# EAGLE library part POCKETBEAGLE (library Project)
PocketBeagle Board
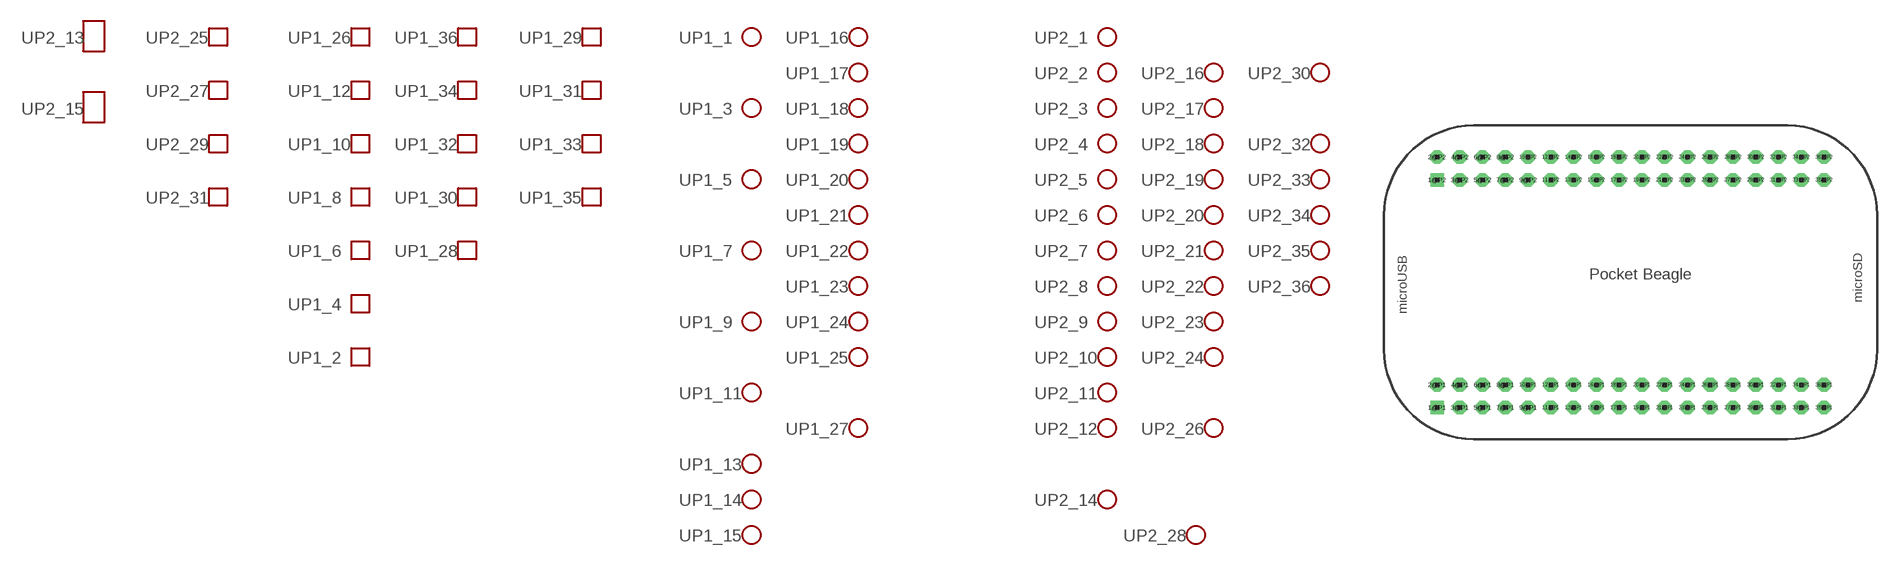
[diagram p0: symbol with the pads of POCKETBEAGLE; footprint POCKETBEAGLE]

Designator prefix -; gates P1_7=POCKETBEAGLE_MISC P1_9=POCKETBEAGLE_MISC P1_16=POCKETBEAGLE_MISC P1_17=POCKETBEAGLE_MISC P1_18=POCKETBEAGLE_MISC P1_19=POCKETBEAGLE_MISC P1_20=POCKETBEAGLE_MISC P1_21=POCKETBEAGLE_MISC P1_22=POCKETBEAGLE_MISC P1_23=POCKETBEAGLE_MISC P1_24=POCKETBEAGLE_MISC P1_25=POCKETBEAGLE_MISC P1_27=POCKETBEAGLE_MISC P2_1=POCKETBEAGLE_MISC P2_2=POCKETBEAGLE_MISC P2_3=POCKETBEAGLE_MISC P2_4=POCKETBEAGLE_MISC P2_5=POCKETBEAGLE_MISC P2_6=POCKETBEAGLE_MISC P2_7=POCKETBEAGLE_MISC P2_8=POCKETBEAGLE_MISC P2_9=POCKETBEAGLE_MISC P2_10=POCKETBEAGLE_MISC P2_11=POCKETBEAGLE_MISC P2_12=POCKETBEAGLE_MISC P2_16=POCKETBEAGLE_MISC P2_17=POCKETBEAGLE_MISC P2_18=POCKETBEAGLE_MISC P2_19=POCKETBEAGLE_MISC P2_20=POCKETBEAGLE_MISC P2_21=POCKETBEAGLE_MISC P2_22=POCKETBEAGLE_MISC P2_23=POCKETBEAGLE_MISC P2_24=POCKETBEAGLE_MISC P2_26=POCKETBEAGLE_MISC P2_28=POCKETBEAGLE_MISC P2_30=POCKETBEAGLE_MISC P2_32=POCKETBEAGLE_MISC P2_33=POCKETBEAGLE_MISC P2_34=POCKETBEAGLE_MISC P2_35=POCKETBEAGLE_MISC P2_36=POCKETBEAGLE_MISC P1_1=POCKETBEAGLE_MISC P1_3=POCKETBEAGLE_MISC P1_5=POCKETBEAGLE_MISC P1_11=POCKETBEAGLE_MISC P1_13=POCKETBEAGLE_MISC P1_14=POCKETBEAGLE_MISC P1_15=POCKETBEAGLE_MISC P2_14=POCKETBEAGLE_MISC P1_29=POCKETBEAGLE_SIGNALS P1_31=POCKETBEAGLE_SIGNALS P1_33=POCKETBEAGLE_SIGNALS P1_35=POCKETBEAGLE_SIGNALS P1_28=POCKETBEAGLE_SIGNALS P1_30=POCKETBEAGLE_SIGNALS P1_32=POCKETBEAGLE_SIGNALS P1_34=POCKETBEAGLE_SIGNALS P1_36=POCKETBEAGLE_SIGNALS P1_12=POCKETBEAGLE_SIGNALS P1_10=POCKETBEAGLE_SIGNALS P1_8=POCKETBEAGLE_SIGNALS P1_6=POCKETBEAGLE_SIGNALS P1_4=POCKETBEAGLE_SIGNALS P1_2=POCKETBEAGLE_SIGNALS P1_26=POCKETBEAGLE_SIGNALS P2_25=POCKETBEAGLE_SIGNALS P2_27=POCKETBEAGLE_SIGNALS P2_29=POCKETBEAGLE_SIGNALS P2_31=POCKETBEAGLE_SIGNALS P2_13=POCKETBEAGLE_PWR P2_15=POCKETBEAGLE_PWR

## POCKETBEAGLE  [POCKETBEAGLE]
1@P1  P1_1:PWR
1@P2  P2_1:PWR
2@P1  P1_2:PWR
2@P2  P2_2:PWR
3@P1  P1_3:PWR
3@P2  P2_3:PWR
4@P1  P1_4:PWR
4@P2  P2_4:PWR
5@P1  P1_5:PWR
5@P2  P2_5:PWR
6@P1  P1_6:PWR
6@P2  P2_6:PWR
7@P1  P1_7:PWR
7@P2  P2_7:PWR
8@P1  P1_8:PWR
8@P2  P2_8:PWR
9@P1  P1_9:PWR
9@P2  P2_9:PWR
10@P1  P1_10:PWR
10@P2  P2_10:PWR
11@P1  P1_11:PWR
11@P2  P2_11:PWR
12@P1  P1_12:PWR
12@P2  P2_12:PWR
13@P1  P1_13:PWR
13@P2  P2_13:PWR
14@P1  P1_14:PWR
14@P2  P2_14:PWR
15@P1  P1_15:PWR
15@P2  P2_15:PWR
16@P1  P1_16:PWR
16@P2  P2_16:PWR
17@P1  P1_17:PWR
17@P2  P2_17:PWR
18@P1  P1_18:PWR
18@P2  P2_18:PWR
19@P1  P1_19:PWR
19@P2  P2_19:PWR
20@P1  P1_20:PWR
20@P2  P2_20:PWR
21@P1  P1_21:PWR
21@P2  P2_21:PWR
22@P1  P1_22:PWR
22@P2  P2_22:PWR
23@P1  P1_23:PWR
23@P2  P2_23:PWR
24@P1  P1_24:PWR
24@P2  P2_24:PWR
25@P1  P1_25:PWR
25@P2  P2_25:PWR
26@P1  P1_26:PWR
26@P2  P2_26:PWR
27@P1  P1_27:PWR
27@P2  P2_27:PWR
28@P1  P1_28:PWR
28@P2  P2_28:PWR
29@P1  P1_29:PWR
29@P2  P2_29:PWR
30@P1  P1_30:PWR
30@P2  P2_30:PWR
31@P1  P1_31:PWR
31@P2  P2_31:PWR
32@P1  P1_32:PWR
32@P2  P2_32:PWR
33@P1  P1_33:PWR
33@P2  P2_33:PWR
34@P1  P1_34:PWR
34@P2  P2_34:PWR
35@P1  P1_35:PWR
35@P2  P2_35:PWR
36@P1  P1_36:PWR
36@P2  P2_36:PWR

## Footprint POCKETBEAGLE (pad centres in mm)
Package generated by make-group2pac.ulp from: C:/Users/kiran/School/Spring 2022/ENGI 301/pocketbeagle-master/pocketbeagle-master/EAGLE/PocketBeagle.brd at: 5/2/2022 8:35 AM
drill 0.889 pad 1.524 square: 1@P1 5.91,3.53; 1@P2 5.91,28.93
drill 0.889 pad 1.524 octagon: 2@P1 5.91,6.07; 2@P2 5.91,31.47; 3@P1 8.45,3.53; 3@P2 8.45,28.93; 4@P1 8.45,6.07; 4@P2 8.45,31.47; 5@P1 10.99,3.53; 5@P2 10.99,28.93; 6@P1 10.99,6.07; 6@P2 10.99,31.47; 7@P1 13.53,3.53; 7@P2 13.53,28.93; 8@P1 13.53,6.07; 8@P2 13.53,31.47; 9@P1 16.07,3.53; 9@P2 16.07,28.93; 10@P1 16.07,6.07; 10@P2 16.07,31.47; 11@P1 18.61,3.53; 11@P2 18.61,28.93; 12@P1 18.61,6.07; 12@P2 18.61,31.47; 13@P1 21.15,3.53; 13@P2 21.15,28.93; 14@P1 21.15,6.07; 14@P2 21.15,31.47; 15@P1 23.69,3.53; 15@P2 23.69,28.93; 16@P1 23.69,6.07; 16@P2 23.69,31.47; 17@P1 26.23,3.53; 17@P2 26.23,28.93; 18@P1 26.23,6.07; 18@P2 26.23,31.47; 19@P1 28.77,3.53; 19@P2 28.77,28.93; 20@P1 28.77,6.07; 20@P2 28.77,31.47; 21@P1 31.31,3.53; 21@P2 31.31,28.93; 22@P1 31.31,6.07; 22@P2 31.31,31.47; 23@P1 33.85,3.53; 23@P2 33.85,28.93; 24@P1 33.85,6.07; 24@P2 33.85,31.47; 25@P1 36.39,3.53; 25@P2 36.39,28.93; 26@P1 36.39,6.07; 26@P2 36.39,31.47; 27@P1 38.93,3.53; 27@P2 38.93,28.93; 28@P1 38.93,6.07; 28@P2 38.93,31.47; 29@P1 41.47,3.53; 29@P2 41.47,28.93; 30@P1 41.47,6.07; 30@P2 41.47,31.47; 31@P1 44.01,3.53; 31@P2 44.01,28.93; 32@P1 44.01,6.07; 32@P2 44.01,31.47; 33@P1 46.55,3.53; 33@P2 46.55,28.93; 34@P1 46.55,6.07; 34@P2 46.55,31.47; 35@P1 49.09,3.53; 35@P2 49.09,28.93; 36@P1 49.09,6.07; 36@P2 49.09,31.47